# Altium schematic symbol library Connectivity.SchLib: 1 symbol
Pins are listed as number, name and electrical type; pins without a type are passive.

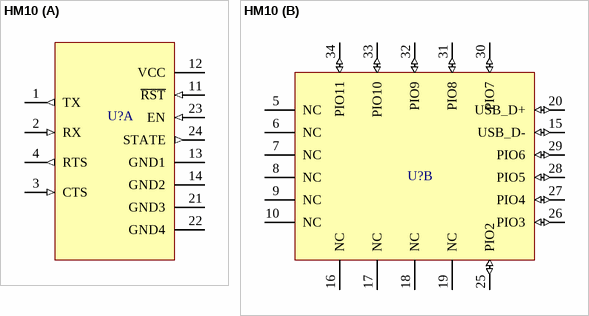
[diagram p0: symbol HM10]

## HM10
designator U?, comment HM10 BLE Module  (value not drawn)
Modulo BLE HM10 con castellated pads.
footprint HM10_FOOTPRINT (26.9X13X2.2_BOARD)
part A pins: 1 TX (out), 2 RX (in), 3 CTS (in), 4 RTS (out), 11 ~{RST} (in), 12 VCC (power), 13 GND1 (power), 14 GND2 (power), 21 GND3 (power), 22 GND4 (power), 23 EN (in), 24 STATE (out)
part B pins: 5 NC, 6 NC, 7 NC, 8 NC, 9 NC, 10 NC, 15 USB_D- (io), 16 NC, 17 NC, 18 NC, 19 NC, 20 USB_D+ (io), 25 PIO2 (io), 26 PIO3 (io), 27 PIO4 (io), 28 PIO5 (io), 29 PIO6 (io), 30 PIO7 (io), 31 PIO8 (io), 32 PIO9 (io), 33 PIO10 (io), 34 PIO11 (io)